# Altium footprint library HMC540SLP3E.PcbLib: 3 footprints
Each footprint in its own frame and in the unit in brackets; x right, y up, seen from the top. Pads: shape width x height; smd on the part's side, far side on the other; paste and mask are expansions set on the pad; w line width, h text height; cw(c..) or ccw(c..) is an arc to the next point about the centre after c.
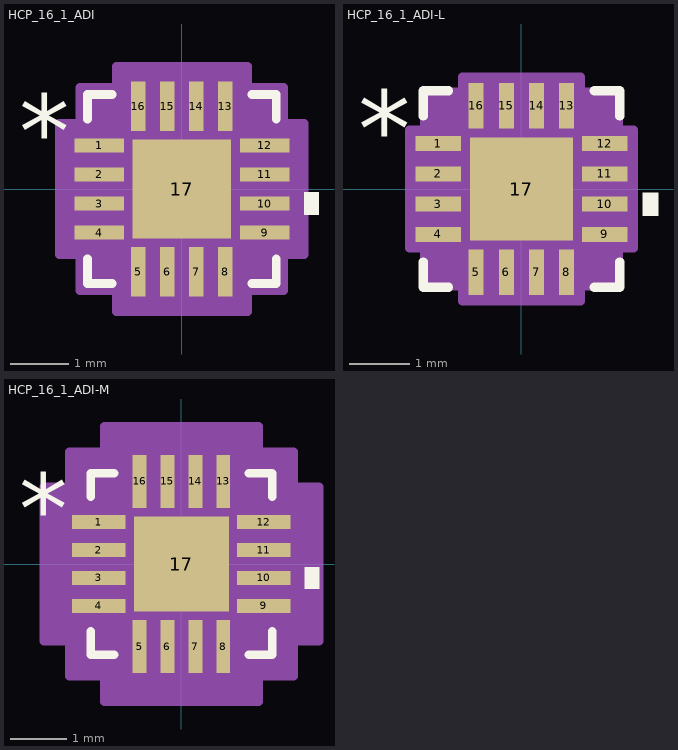
[diagram p0: the footprints below, top view; thin cyan lines are the x and y axes]

## HCP_16_1_ADI [mm]
pads (17):
  rect 0.855x0.249 smd paste+0 mask+0: 1(-1.427,0.75) 2(-1.427,0.25) 3(-1.427,-0.25) 4(-1.427,-0.75) 9(1.427,-0.75) 10(1.427,-0.25) 11(1.427,0.25) 12(1.427,0.75)
  rect 0.249x0.855 smd paste+0 mask+0: 5(-0.75,-1.427) 6(-0.25,-1.427) 7(0.25,-1.427) 8(0.75,-1.427) 13(0.75,1.427) 14(0.25,1.427) 15(-0.25,1.427) 16(-0.75,1.427)
  rect 1.7x1.7 smd paste+0 mask+0: 17(0,0)
Top Overlay:
  region: 2.109,-0.059 2.363,-0.059 2.363,-0.44 2.109,-0.44
  lines w0.152: -1.627,-1.207 -1.627,-1.627 -1.207,-1.627 ; -1.627,1.207 -1.627,1.627 -1.207,1.627 ; 1.207,-1.627 1.627,-1.627 1.627,-1.207 ; 1.207,1.627 1.627,1.627 1.627,1.207
  text "*" at -2.807,0.365 h1.27
  text ".Designator" at -3.492,-0.635 h1.27
Mechanical 13:
  lines w0.025: -1.5,0.23 -0.23,1.5 ; -1.5,-1.5 1.5,-1.5 ; -1.5,-1.5 -1.5,1.5 ; -1.5,-1.5 -1.5,-1.5 ; -1.5,1.5 1.5,1.5 ; -1.5,1.5 -1.5,1.5 ; 1.5,-1.5 1.5,-1.5 ; 1.5,-1.5 1.5,1.5 ; 1.5,1.5 1.5,1.5 ; -1.55,-0.9 -1.55,-0.6 -1.5,-0.6 -1.5,-0.9 -1.55,-0.9 ; -1.55,-0.4 -1.55,-0.1 -1.5,-0.1 -1.5,-0.4 -1.55,-0.4 ; -1.55,0.1 -1.55,0.4 -1.5,0.4 -1.5,0.1 -1.55,0.1 ; -1.55,0.6 -1.55,0.9 -1.5,0.9 -1.5,0.6 -1.55,0.6 ; -0.9,-1.55 -0.9,-1.5 -0.6,-1.5 -0.6,-1.55 -0.9,-1.55 ; -0.9,1.5 -0.6,1.5 -0.6,1.55 -0.9,1.55 -0.9,1.5 ; -0.4,-1.55 -0.4,-1.5 -0.1,-1.5 -0.1,-1.55 -0.4,-1.55 ; -0.4,1.5 -0.1,1.5 -0.1,1.55 -0.4,1.55 -0.4,1.5 ; 0.1,-1.55 0.1,-1.5 0.4,-1.5 0.4,-1.55 0.1,-1.55 ; 0.1,1.5 0.4,1.5 0.4,1.55 0.1,1.55 0.1,1.5 ; 0.6,-1.55 0.6,-1.5 0.9,-1.5 0.9,-1.55 0.6,-1.55 ; 0.6,1.5 0.9,1.5 0.9,1.55 0.6,1.55 0.6,1.5 ; 1.5,-0.9 1.5,-0.6 1.55,-0.6 1.55,-0.9 1.5,-0.9 ; 1.5,-0.4 1.5,-0.1 1.55,-0.1 1.55,-0.4 1.5,-0.4 ; 1.5,0.1 1.5,0.4 1.55,0.4 1.55,0.1 1.5,0.1 ; 1.5,0.6 1.5,0.9 1.55,0.9 1.55,0.6 1.5,0.6
  text ".Designator" at -3.492,-0.635 h1.27
  text "*" at -1.318,0.365 h1.27
Mechanical 15:
  region: -1.129,-1.754 -1.754,-1.754 -1.754,-1.129 -2.109,-1.129 -2.109,1.129 -1.754,1.129 -1.754,1.754 -1.129,1.754 -1.129,2.109 1.129,2.109 1.129,1.754 1.754,1.754 1.754,1.129 2.109,1.129 2.109,-1.129 1.754,-1.129 1.754,-1.754 1.129,-1.754 1.129,-2.109 -1.129,-2.109
  lines w0.152: -2.109,-1.129 -1.754,-1.129 -1.754,-1.754 -1.129,-1.754 -1.129,-2.109 1.129,-2.109 1.129,-1.754 1.754,-1.754 1.754,-1.129 2.109,-1.129 2.109,1.129 1.754,1.129 1.754,1.754 1.129,1.754 1.129,2.109 -1.129,2.109 -1.129,1.754 -1.754,1.754 -1.754,1.129 -2.109,1.129 -2.109,-1.129
3D body "HCP_16_1_ADI.step": height 1, standoff 0, extent -1.55,-1.55 1.55,1.55

## HCP_16_1_ADI-L [mm]
pads (17):
  rect 0.753x0.249 smd paste+0 mask+0: 1(-1.377,0.75) 2(-1.377,0.25) 3(-1.377,-0.25) 4(-1.377,-0.75) 9(1.377,-0.75) 10(1.377,-0.25) 11(1.377,0.25) 12(1.377,0.75)
  rect 0.249x0.753 smd paste+0 mask+0: 5(-0.75,-1.377) 6(-0.25,-1.377) 7(0.25,-1.377) 8(0.75,-1.377) 13(0.75,1.377) 14(0.25,1.377) 15(-0.25,1.377) 16(-0.75,1.377)
  rect 1.7x1.7 smd paste+0 mask+0: 17(0,0)
Top Overlay:
  region: 2.007,-0.059 2.261,-0.059 2.261,-0.44 2.007,-0.44
  lines w0.152: -1.627,-1.207 -1.627,-1.627 -1.207,-1.627 ; -1.627,1.207 -1.627,1.627 -1.207,1.627 ; 1.207,-1.627 1.627,-1.627 1.627,-1.207 ; 1.207,1.627 1.627,1.627 1.627,1.207
  text "*" at -2.706,0.365 h1.27
  text ".Designator" at -3.492,-0.635 h1.27
Mechanical 13:
  lines w0.025: -1.5,0.23 -0.23,1.5 ; -1.5,-1.5 1.5,-1.5 ; -1.5,-1.5 -1.5,1.5 ; -1.5,-1.5 -1.5,-1.5 ; -1.5,1.5 1.5,1.5 ; -1.5,1.5 -1.5,1.5 ; 1.5,-1.5 1.5,-1.5 ; 1.5,-1.5 1.5,1.5 ; 1.5,1.5 1.5,1.5 ; -1.55,-0.9 -1.55,-0.6 -1.5,-0.6 -1.5,-0.9 -1.55,-0.9 ; -1.55,-0.4 -1.55,-0.1 -1.5,-0.1 -1.5,-0.4 -1.55,-0.4 ; -1.55,0.1 -1.55,0.4 -1.5,0.4 -1.5,0.1 -1.55,0.1 ; -1.55,0.6 -1.55,0.9 -1.5,0.9 -1.5,0.6 -1.55,0.6 ; -0.9,-1.55 -0.9,-1.5 -0.6,-1.5 -0.6,-1.55 -0.9,-1.55 ; -0.9,1.5 -0.6,1.5 -0.6,1.55 -0.9,1.55 -0.9,1.5 ; -0.4,-1.55 -0.4,-1.5 -0.1,-1.5 -0.1,-1.55 -0.4,-1.55 ; -0.4,1.5 -0.1,1.5 -0.1,1.55 -0.4,1.55 -0.4,1.5 ; 0.1,-1.55 0.1,-1.5 0.4,-1.5 0.4,-1.55 0.1,-1.55 ; 0.1,1.5 0.4,1.5 0.4,1.55 0.1,1.55 0.1,1.5 ; 0.6,-1.55 0.6,-1.5 0.9,-1.5 0.9,-1.55 0.6,-1.55 ; 0.6,1.5 0.9,1.5 0.9,1.55 0.6,1.55 0.6,1.5 ; 1.5,-0.9 1.5,-0.6 1.55,-0.6 1.55,-0.9 1.5,-0.9 ; 1.5,-0.4 1.5,-0.1 1.55,-0.1 1.55,-0.4 1.5,-0.4 ; 1.5,0.1 1.5,0.4 1.55,0.4 1.55,0.1 1.5,0.1 ; 1.5,0.6 1.5,0.9 1.55,0.9 1.55,0.6 1.5,0.6
  text ".Designator" at -3.492,-0.635 h1.27
  text "*" at -1.318,0.365 h1.27
Mechanical 15:
  region: -0.976,-1.602 -1.602,-1.602 -1.602,-0.976 -1.855,-0.976 -1.855,0.976 -1.602,0.976 -1.602,1.602 -0.976,1.602 -0.976,1.855 0.976,1.855 0.976,1.602 1.602,1.602 1.602,0.976 1.855,0.976 1.855,-0.976 1.602,-0.976 1.602,-1.602 0.976,-1.602 0.976,-1.855 -0.976,-1.855
  lines w0.152: -1.855,-0.976 -1.602,-0.976 -1.602,-1.602 -0.976,-1.602 -0.976,-1.855 0.976,-1.855 0.976,-1.602 1.602,-1.602 1.602,-0.976 1.855,-0.976 1.855,0.976 1.602,0.976 1.602,1.602 0.976,1.602 0.976,1.855 -0.976,1.855 -0.976,1.602 -1.602,1.602 -1.602,0.976 -1.855,0.976 -1.855,-0.976
3D body "HCP_16_1_ADI.step": height 1, standoff 0, extent -1.55,-1.55 1.55,1.55

## HCP_16_1_ADI-M [mm]
pads (17):
  rect 0.956x0.249 smd paste+0 mask+0: 1(-1.478,0.75) 2(-1.478,0.25) 3(-1.478,-0.25) 4(-1.478,-0.75) 9(1.478,-0.75) 10(1.478,-0.25) 11(1.478,0.25) 12(1.478,0.75)
  rect 0.249x0.956 smd paste+0 mask+0: 5(-0.75,-1.478) 6(-0.25,-1.478) 7(0.25,-1.478) 8(0.75,-1.478) 13(0.75,1.478) 14(0.25,1.478) 15(-0.25,1.478) 16(-0.75,1.478)
  rect 1.7x1.7 smd paste+0 mask+0: 17(0,0)
Top Overlay:
  region: 2.21,-0.059 2.464,-0.059 2.464,-0.44 2.21,-0.44
  lines w0.152: -1.627,-1.207 -1.627,-1.627 -1.207,-1.627 ; -1.627,1.207 -1.627,1.627 -1.207,1.627 ; 1.207,-1.627 1.627,-1.627 1.627,-1.207 ; 1.207,1.627 1.627,1.627 1.627,1.207
  text "*" at -2.909,0.365 h1.27
  text ".Designator" at -3.492,-0.635 h1.27
Mechanical 13:
  lines w0.025: -1.5,0.23 -0.23,1.5 ; -1.5,-1.5 1.5,-1.5 ; -1.5,-1.5 -1.5,1.5 ; -1.5,-1.5 -1.5,-1.5 ; -1.5,1.5 1.5,1.5 ; -1.5,1.5 -1.5,1.5 ; 1.5,-1.5 1.5,-1.5 ; 1.5,-1.5 1.5,1.5 ; 1.5,1.5 1.5,1.5 ; -1.55,-0.9 -1.55,-0.6 -1.5,-0.6 -1.5,-0.9 -1.55,-0.9 ; -1.55,-0.4 -1.55,-0.1 -1.5,-0.1 -1.5,-0.4 -1.55,-0.4 ; -1.55,0.1 -1.55,0.4 -1.5,0.4 -1.5,0.1 -1.55,0.1 ; -1.55,0.6 -1.55,0.9 -1.5,0.9 -1.5,0.6 -1.55,0.6 ; -0.9,-1.55 -0.9,-1.5 -0.6,-1.5 -0.6,-1.55 -0.9,-1.55 ; -0.9,1.5 -0.6,1.5 -0.6,1.55 -0.9,1.55 -0.9,1.5 ; -0.4,-1.55 -0.4,-1.5 -0.1,-1.5 -0.1,-1.55 -0.4,-1.55 ; -0.4,1.5 -0.1,1.5 -0.1,1.55 -0.4,1.55 -0.4,1.5 ; 0.1,-1.55 0.1,-1.5 0.4,-1.5 0.4,-1.55 0.1,-1.55 ; 0.1,1.5 0.4,1.5 0.4,1.55 0.1,1.55 0.1,1.5 ; 0.6,-1.55 0.6,-1.5 0.9,-1.5 0.9,-1.55 0.6,-1.55 ; 0.6,1.5 0.9,1.5 0.9,1.55 0.6,1.55 0.6,1.5 ; 1.5,-0.9 1.5,-0.6 1.55,-0.6 1.55,-0.9 1.5,-0.9 ; 1.5,-0.4 1.5,-0.1 1.55,-0.1 1.55,-0.4 1.5,-0.4 ; 1.5,0.1 1.5,0.4 1.55,0.4 1.55,0.1 1.5,0.1 ; 1.5,0.6 1.5,0.9 1.55,0.9 1.55,0.6 1.5,0.6
  text ".Designator" at -3.492,-0.635 h1.27
  text "*" at -1.318,0.365 h1.27
Mechanical 15:
  region: -1.383,-2.008 -2.008,-2.008 -2.008,-1.383 -2.464,-1.383 -2.464,1.383 -2.008,1.383 -2.008,2.008 -1.383,2.008 -1.383,2.464 1.383,2.464 1.383,2.008 2.008,2.008 2.008,1.383 2.464,1.383 2.464,-1.383 2.008,-1.383 2.008,-2.008 1.383,-2.008 1.383,-2.464 -1.383,-2.464
  lines w0.152: -2.464,-1.383 -2.008,-1.383 -2.008,-2.008 -1.383,-2.008 -1.383,-2.464 1.383,-2.464 1.383,-2.008 2.008,-2.008 2.008,-1.383 2.464,-1.383 2.464,1.383 2.008,1.383 2.008,2.008 1.383,2.008 1.383,2.464 -1.383,2.464 -1.383,2.008 -2.008,2.008 -2.008,1.383 -2.464,1.383 -2.464,-1.383
3D body "HCP_16_1_ADI.step": height 1, standoff 0, extent -1.55,-1.55 1.55,1.55